# Altium footprint library PDB_footprints.PcbLib: 17 footprints (part 2 of 2)
Each footprint in its own frame and in the unit in brackets; x right, y up, seen from the top. Pads: shape width x height; smd on the part's side, far side on the other; paste and mask are expansions set on the pad; w line width, h text height; cw(c..) or ccw(c..) is an arc to the next point about the centre after c.
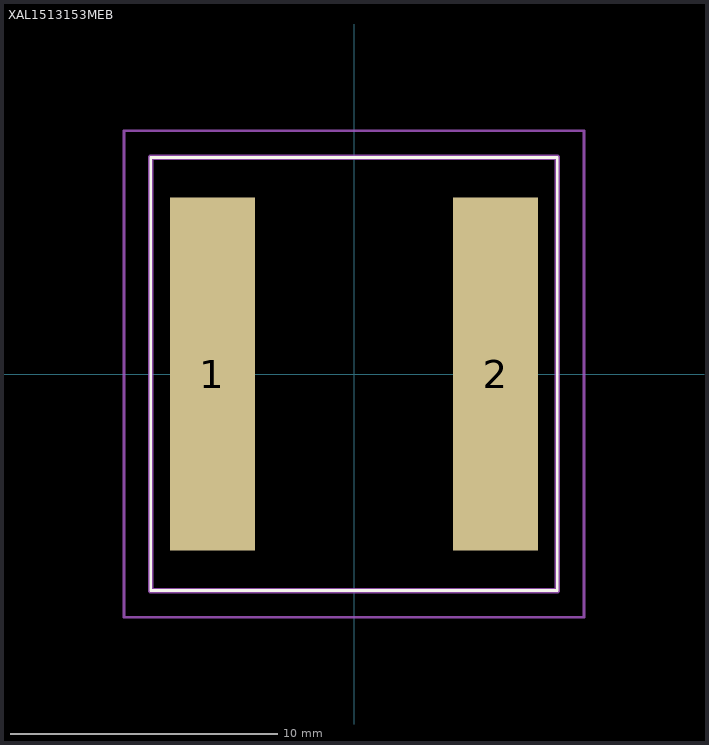
[diagram p1: the footprint, top view; thin cyan lines are the x and y axes]

## XAL1513153MEB [mm]
pads (2):
  rect 3.18x13.2 smd: 1(-5.3,0) 2(5.3,0)
Top Overlay:
  lines w0.1: -7.6,-8.1 -7.6,8.1 7.6,8.1 7.6,-8.1 -7.6,-8.1
Mechanical 13:
  lines w0.2: -7.6,-8.1 -7.6,8.1 7.6,8.1 7.6,-8.1 -7.6,-8.1
Mechanical 15:
  lines w0.1: -8.6,-9.1 -8.6,9.1 8.6,9.1 8.6,-9.1 -8.6,-9.1
3D body "XAL1510-103MEB.stp": height 13.1, standoff 0, extent -7.6,-8.1 7.6,8.1